# Altium footprint library KlokWave.PcbLib: 24 footprints (part 1 of 2)
Each footprint in its own frame and in the unit in brackets; x right, y up, seen from the top. Pads: shape width x height; smd on the part's side, far side on the other; paste and mask are expansions set on the pad; w line width, h text height; cw(c..) or ccw(c..) is an arc to the next point about the centre after c.
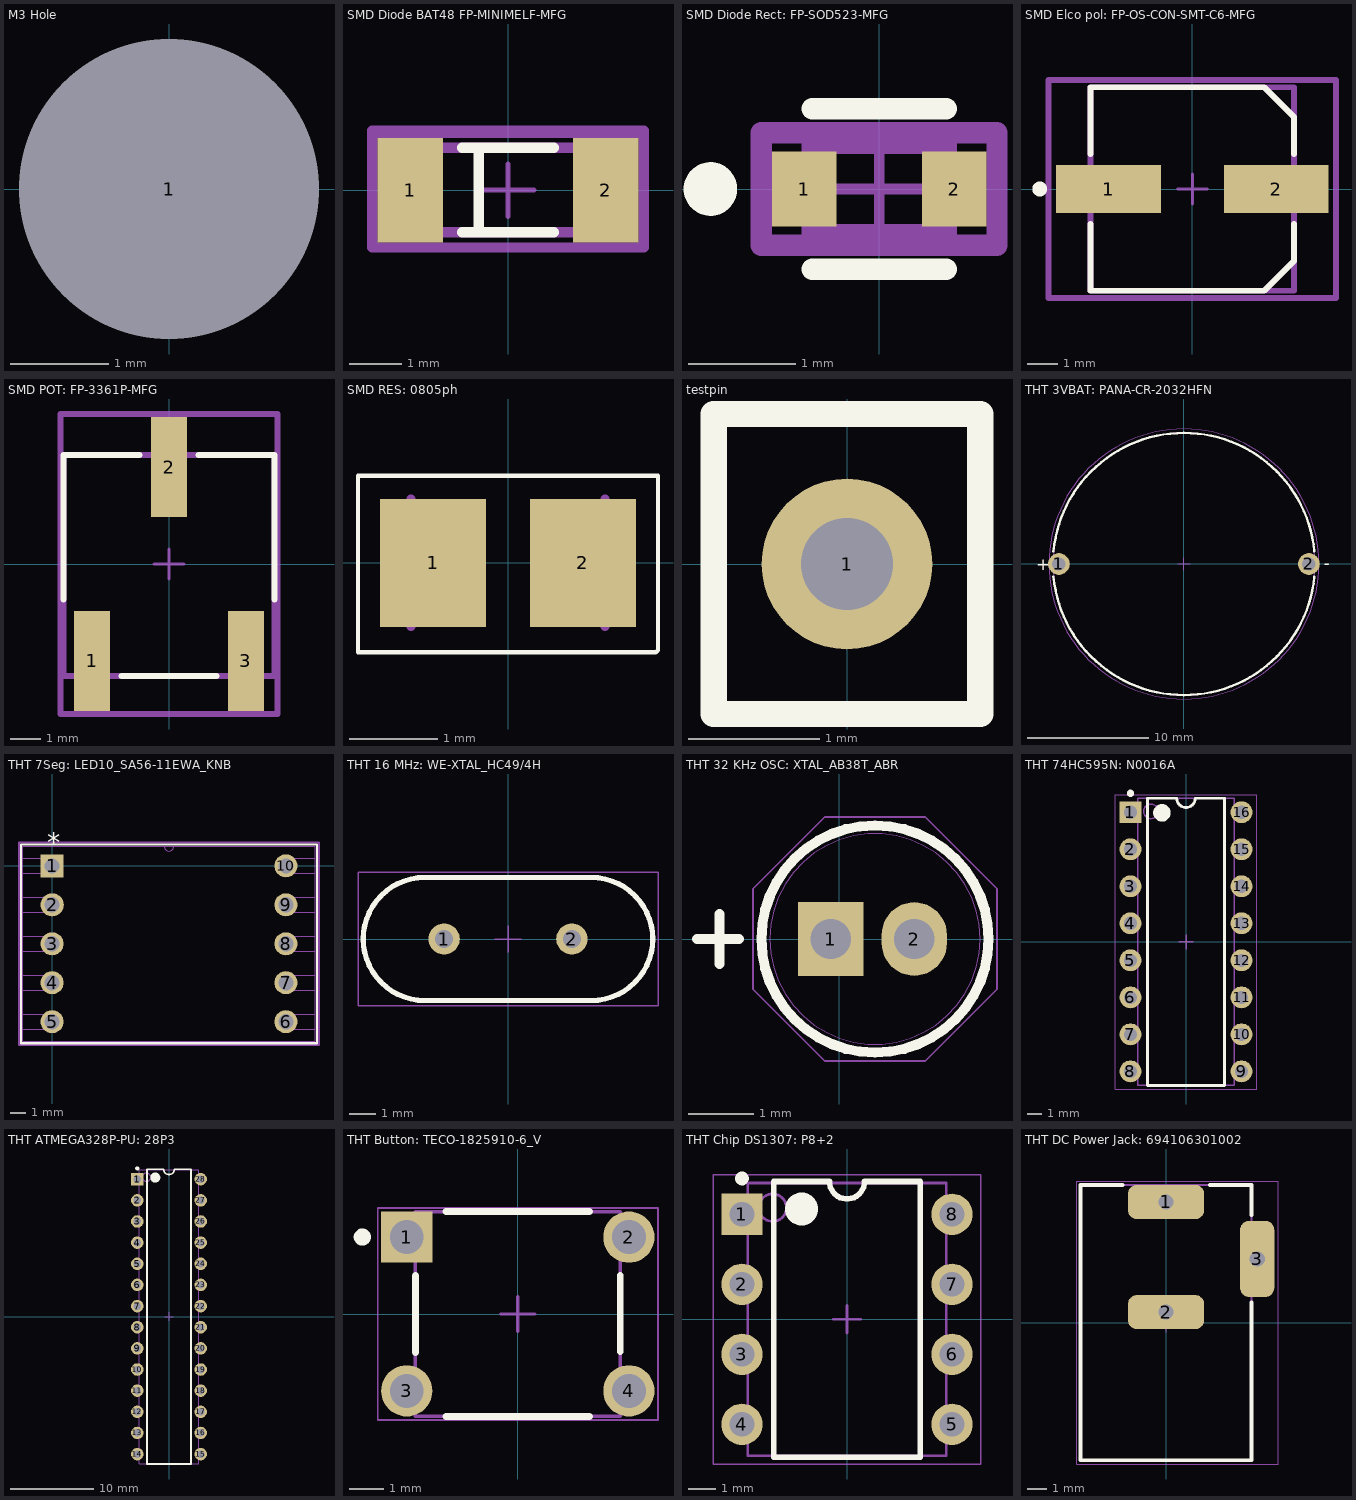
[diagram p0: the footprints below, top view; thin cyan lines are the x and y axes]

## M3 Hole [mm]
pads (1):
  round 1.3 hole 3.048 unplated paste-2539.97 mask+0: 1(0,0)

## SMD Diode BAT48 FP-MINIMELF-MFG [mm]
pads (2):
  rect 1.25x2 smd paste+0 mask+0: 1(-1.875,0) 2(1.875,0)
Top Overlay:
  lines w0.2: -0.875,-0.81 0.875,-0.81 ; -0.875,0.81 0.875,0.81 ; -0.56,-0.75 -0.56,0.75
Top 3D Body:
  lines w0.2: -1.8,-0.81 -1.8,0.81 1.8,0.81 1.8,-0.81 -1.8,-0.81
Top Courtyard:
  lines w0.2: -2.6,-1.1 2.6,-1.1 2.6,1.143 -2.6,1.143 -2.6,-1.1
Top Assembly:
  lines w0.2: -2.6,-1.1 -2.6,1.1 2.6,1.1 2.6,-1.1 -2.6,-1.1
Top Component Center:
  lines w0.1: -0.5,0 0.5,0 ; 0,-0.5 0,0.5
3D body "Diode_STMicroelectronics_TMMBAT48FILM_eec.STEP": height 0.25, standoff 0, extent -2.6,-1.1 2.6,1.1

## SMD Diode Rect: FP-SOD523-MFG [mm] "~ 2mm"
pads (2):
  rect 0.6x0.7 smd paste+0 mask+0: 1(-0.7,0) 2(0.7,0)
Top Overlay:
  circle w0.25: c-1.575,0 r0.125
  lines w0.2: -0.625,-0.75 0.625,-0.75 ; -0.625,0.75 0.625,0.75
Top 3D Body:
  lines w0.2: -0.625,-0.425 0.625,-0.425 0.625,0.425 -0.625,0.425 -0.625,-0.425
Top Courtyard:
  lines w0.2: -1.1,-0.525 1.1,-0.525 1.1,0.525 -1.1,0.525 -1.1,-0.525
Top Assembly:
  lines w0.2: -1.1,-0.525 1.1,-0.525 1.1,0.525 -1.1,0.525 -1.1,-0.525
Top Component Center:
  lines w0.1: -0.5,0 0.5,0 ; 0,-0.5 0,0.5
3D body "Diode_Diodes_Inc_SDM03U40-7_eec.STEP": height 0.25, standoff 0, extent -1.1,-0.525 1.1,0.525

## SMD Elco pol: FP-OS-CON-SMT-C6-MFG [mm]
pads (2):
  rect 3.5x1.6 smd paste+0 mask+0: 1(-2.8,0) 2(2.8,0)
Top Overlay:
  circle w0.25: c-5.1,0 r0.125
  lines w0.2: -3.4,-1.175 -3.4,-3.4 2.4,-3.4 3.4,-2.4 3.4,-1.175 ; -3.4,1.175 -3.4,3.4 2.4,3.4 3.4,2.4 3.4,1.175
Top 3D Body:
  lines w0.2: -3.4,-3.4 -3.4,3.4 3.4,3.4 3.4,-3.4 -3.4,-3.4
Top Courtyard:
  lines w0.2: -4.8,-3.65 -4.8,3.65 4.8,3.65 4.8,-3.65 -4.8,-3.65
Top Assembly:
  lines w0.2: -4.8,-3.65 -4.8,3.65 4.8,3.65 4.8,-3.65 -4.8,-3.65
Top Component Center:
  lines w0.1: -0.5,0 0.5,0 ; 0,-0.5 0,0.5
3D body "Cap_Panasonic_20SVPK150M_eec.STEP": height 0.25, standoff 0, extent -4.8,-3.65 4.8,3.65

## SMD POT: FP-3361P-MFG [mm]
pads (3):
  rect 1.19x3.3 smd paste+0 mask+0: 1(-2.54,-3.2) 2(0,3.2) 3(2.54,-3.2)
Top Overlay:
  lines w0.2: -3.48,-1.175 -3.48,3.6 -0.97,3.6 ; -1.57,-3.69 1.57,-3.69 ; 0.97,3.6 3.48,3.6 3.48,-1.175
Top 3D Body:
  lines w0.2: -3.48,-3.69 3.48,-3.69 3.48,3.6 -3.48,3.6 -3.48,-3.69
Top Courtyard:
  lines w0.2: -3.58,-4.95 3.58,-4.95 3.58,4.95 -3.58,4.95 -3.58,-4.95
Top Assembly:
  lines w0.2: -3.58,-4.95 3.58,-4.95 3.58,4.95 -3.58,4.95 -3.58,-4.95
Top Component Center:
  lines w0.1: -0.5,0 0.5,0 ; 0,-0.5 0,0.5
3D body "Res_Bourns_3361P-1-502GLF_eec.STEP": height 0.25, standoff 0, extent -3.58,-4.95 3.58,4.95

## SMD RES: 0805ph [mm] "Chip Resistor, 2-Leads, Body 2.00x1.25mm, IPC Medium Density"
height 0.6
pads (2):
  rect 1.2x1.45 smd: 1(-0.85,0) 2(0.85,0)
Top Overlay:
  lines w0.05: -1.702,-1.016 1.676,-1.016 1.702,-0.991 1.702,0.991 -1.702,0.991 -1.702,-1.016
Mechanical 13:
  lines w0.1: -1.1,-0.725 -1.1,0.725 ; 1.1,-0.725 1.1,0.725
3D body: height 0.6, standoff 0, extent -1.1,-0.725 -0.7,0.725
3D body: height 0.6, standoff 0, extent 0.7,-0.725 1.1,0.725

## testpin [mm]
pads (1):
  round 1.3 hole 0.7: 1(0,0)
Top Overlay:
  lines w0.2: -1.016,-1.143 1.016,-1.143 1.016,-0.244 1.016,1.143 -1.016,1.143 -1.016,-1.143

## THT 3VBAT: PANA-CR-2032HFN [mm] "TH, 2-Leads, Dia 21.5mm"
height 9.9
pads (2):
  round 1.78 hole 1.1: 1(-10.25,0)
  oval 1.778x1.78 hole 1.1: 2(10.25,0)
Top Overlay:
  lines w0.2: -10.698,-1.06 ccw(c0,0) 10.698,-1.06 ; -10.698,1.06 cw(c0,0) 10.698,1.06
  text "-" at 11.453,-0.45 h1.02
  text "+" at -12.13,-0.5 h1.02
Top Assembly:
  text "-" at 11.453,-0.45 h1.02
  text "+" at -12.13,-0.5 h1.02
Mechanical 13:
  circle w0.1: c0,0 r10.75
Mechanical 15:
  circle w0.05: c0,0 r11.075
  lines w0.1: -0.5,0 0.5,0 ; 0,-0.5 0,0.5
3D body: height 9.9, standoff 4.45, extent -10.749,-10.749 10.749,10.749

## THT 7Seg: LED10_SA56-11EWA_KNB [mil]
pads (10):
  rect 59x59 / inner round 60 / far side rect 59x59 hole 39 paste-99999 mask+0: 1(0,0)
  oval 60x59 hole 39 paste-99999 mask+0: 2(0,-100)
  round 59 / inner round 60 / far side round 59 hole 39 paste-99999 mask+0: 3(0,-200) 4(0,-300) 5(0,-400) 6(600,-400) 7(600,-300) 8(600,-200) 9(600,-100) 10(600,0)
Top Overlay:
  lines w6: -80,-455 680,-455 680,55 -80,55 -80,-455
  text "*" at -12.5,34.5 h50
Mechanical 13:
  lines w0: 288,50 ccw(c300,50) 312,50
  lines w1: -75,-450 675,-450 675,50 -75,50 -75,-450 ; -75,-419.5 -75,-380.5 -19.5,-380.5 -19.5,-419.5 -75,-419.5 ; -75,-319.5 -75,-280.5 -19.5,-280.5 -19.5,-319.5 -75,-319.5 ; -75,-219.5 -75,-180.5 -19.5,-180.5 -19.5,-219.5 -75,-219.5 ; -75,-119.5 -75,-80.5 -19.5,-80.5 -19.5,-119.5 -75,-119.5 ; -75,-19.5 -75,19.5 -19.5,19.5 -19.5,-19.5 -75,-19.5 ; 619.5,-419.5 675,-419.5 675,-380.5 619.5,-380.5 619.5,-419.5 ; 619.5,-319.5 675,-319.5 675,-280.5 619.5,-280.5 619.5,-319.5 ; 619.5,-219.5 675,-219.5 675,-180.5 619.5,-180.5 619.5,-219.5 ; 619.5,-119.5 675,-119.5 675,-80.5 619.5,-80.5 619.5,-119.5 ; 619.5,-19.5 675,-19.5 675,19.5 619.5,19.5 619.5,-19.5
  text "*" at -77.5,-25 h50
Mechanical 15:
  lines w6: -85,-460 -85,-439.5 -85,39.5 -85,60 685,60 685,39.5 685,-439.5 685,-460 -85,-460
3D body "LED10_SA56-11EWA_KNB.step": height 320.12, standoff -100, extent -5,-450 609.61,50

## THT 16 MHz: WE-XTAL_HC49/4H [mm] "Quartz Crystal, size HC49/4H, body 11.05x4.7mm"
height 4.1
pads (2):
  round 1.2 hole 0.7: 1(-2.44,0) 2(2.44,0)
Top Overlay:
  lines w0.2: -3.175,-2.35 cw(c-3.175,0) -3.175,2.35 3.175,2.35 cw(c3.175,0) 3.175,-2.35 -3.175,-2.35
Top 3D Body:
  lines w0.1: -3.175,-2.35 cw(c-3.175,0) -3.175,2.35 3.175,2.35 cw(c3.175,0) 3.175,-2.35 -3.175,-2.35
Top Courtyard:
  lines w0.05: -0.5,0 0.5,0 ; 0,-0.5 0,0.5 ; -5.725,-2.55 -5.725,2.55 5.725,2.55 5.725,-2.55 -5.725,-2.55
Top Component Outline:
  lines w0.1: -3.175,-2.35 cw(c-3.175,0) -3.175,2.35 3.175,2.35 cw(c3.175,0) 3.175,-2.35 -3.175,-2.35
3D body "Frq_XTAL_HC49-4H.stp": height 4.15, standoff -12.65, extent -5.525,-2.35 5.525,2.35

## THT 32 KHz OSC: XTAL_AB38T_ABR [mil]
pads (2):
  rect 39x44 / inner round 60 / far side rect 39x44 hole 24 mask+0: 1(-5,0)
  oval 39x44 / inner round 60 / far side oval 39x44 hole 24 mask+0: 2(45,0)
Top Overlay:
  circle w6: c21.5,0 r68
  lines w6: -85,0 -60,0 ; -71.5,-15 -71.5,15
Mechanical 13:
  circle w0: c21.5,0 r63
  lines w1: -85,0 -60,0 ; -71.5,-15 -71.5,15
Mechanical 15:
  lines w1: -51.5,-30.06 -51.5,30.06 -8.56,73 51.56,73 94.5,30.06 94.5,-30.06 51.56,-73 -8.56,-73 -51.5,-30.06
3D body "XTAL_AB38T_ABR.step": height 330.63, standoff -142.01, extent -41.98,-62.54 84.5,62.54

## THT 74HC595N: N0016A [mm] "DIP, 16-Leads, Body 19.7x6.6mm, Pitch 2.54mm"
height 5.08
pads (16):
  rect 1.5x1.5 hole 0.9: 1(-3.81,8.89)
  round 1.5 hole 0.9: 2(-3.81,6.35) 3(-3.81,3.81) 4(-3.81,1.27) 5(-3.81,-1.27) 6(-3.81,-3.81) 7(-3.81,-6.35) 8(-3.81,-8.89) 9(3.81,-8.89) 10(3.81,-6.35) 11(3.81,-3.81) 12(3.81,-1.27) 13(3.81,1.27) 14(3.81,3.81) 15(3.81,6.35) 16(3.81,8.89)
Top Overlay:
  circle w0.25: c-3.81,10.19 r0.125
  circle w0.6: c-1.65,8.85 r0.3
  lines w0.2: -2.65,-9.85 -2.65,9.85 -0.635,9.85 ccw(c0,9.85) 0.635,9.85 2.65,9.85 2.65,-9.85 -2.65,-9.85
Mechanical 13:
  circle w0.1: c-2.4,8.95 r0.5
  lines w0.1: -3.3,-9.85 -3.3,9.85 3.3,9.85 3.3,-9.85 -3.3,-9.85
Mechanical 15:
  lines w0.05: -4.85,-10.1 -4.85,10.1 4.85,10.1 4.85,-10.1 -4.85,-10.1
  lines w0.1: -0.5,0 0.5,0 ; 0,-0.5 0,0.5
3D body: height 5.08, standoff 0.51, extent -3.3,-9.85 3.3,9.85
3D body: height 2.66, standoff 0, extent -3.945,8.39 -3.675,9.39
3D body: height 2.93, standoff 2.66, extent -3.945,8.39 -3.3,9.39
3D body: height 0, standoff -1.6, extent -3.945,8.53 -3.675,9.25
3D body: height 2.66, standoff 0, extent -3.945,5.85 -3.675,6.85
3D body: height 2.93, standoff 2.66, extent -3.945,5.85 -3.3,6.85
3D body: height 0, standoff -1.6, extent -3.945,5.99 -3.675,6.71
3D body: height 2.66, standoff 0, extent -3.945,3.31 -3.675,4.31
3D body: height 2.93, standoff 2.66, extent -3.945,3.31 -3.3,4.31
3D body: height 0, standoff -1.6, extent -3.945,3.45 -3.675,4.17
3D body: height 2.66, standoff 0, extent -3.945,0.77 -3.675,1.77
3D body: height 2.93, standoff 2.66, extent -3.945,0.77 -3.3,1.77
3D body: height 0, standoff -1.6, extent -3.945,0.91 -3.675,1.63
3D body: height 2.66, standoff 0, extent -3.945,-1.77 -3.675,-0.77
3D body: height 2.93, standoff 2.66, extent -3.945,-1.77 -3.3,-0.77
3D body: height 0, standoff -1.6, extent -3.945,-1.63 -3.675,-0.91
3D body: height 2.66, standoff 0, extent -3.945,-4.31 -3.675,-3.31
3D body: height 2.93, standoff 2.66, extent -3.945,-4.31 -3.3,-3.31
3D body: height 0, standoff -1.6, extent -3.945,-4.17 -3.675,-3.45
3D body: height 2.66, standoff 0, extent -3.945,-6.85 -3.675,-5.85
3D body: height 2.93, standoff 2.66, extent -3.945,-6.85 -3.3,-5.85
3D body: height 0, standoff -1.6, extent -3.945,-6.71 -3.675,-5.99
3D body: height 2.66, standoff 0, extent -3.945,-9.39 -3.675,-8.39
3D body: height 2.93, standoff 2.66, extent -3.945,-9.39 -3.3,-8.39
3D body: height 0, standoff -1.6, extent -3.945,-9.25 -3.675,-8.53
3D body: height 2.66, standoff 0, extent 3.675,-9.39 3.945,-8.39
3D body: height 2.93, standoff 2.66, extent 3.3,-9.39 3.945,-8.39
3D body: height 0, standoff -1.6, extent 3.675,-9.25 3.945,-8.53
3D body: height 2.66, standoff 0, extent 3.675,-6.85 3.945,-5.85
3D body: height 2.93, standoff 2.66, extent 3.3,-6.85 3.945,-5.85
3D body: height 0, standoff -1.6, extent 3.675,-6.71 3.945,-5.99
3D body: height 2.66, standoff 0, extent 3.675,-4.31 3.945,-3.31
3D body: height 2.93, standoff 2.66, extent 3.3,-4.31 3.945,-3.31
3D body: height 0, standoff -1.6, extent 3.675,-4.17 3.945,-3.45
3D body: height 2.66, standoff 0, extent 3.675,-1.77 3.945,-0.77
3D body: height 2.93, standoff 2.66, extent 3.3,-1.77 3.945,-0.77
3D body: height 0, standoff -1.6, extent 3.675,-1.63 3.945,-0.91
3D body: height 2.66, standoff 0, extent 3.675,0.77 3.945,1.77
3D body: height 2.93, standoff 2.66, extent 3.3,0.77 3.945,1.77
3D body: height 0, standoff -1.6, extent 3.675,0.91 3.945,1.63
3D body: height 2.66, standoff 0, extent 3.675,3.31 3.945,4.31
3D body: height 2.93, standoff 2.66, extent 3.3,3.31 3.945,4.31
3D body: height 0, standoff -1.6, extent 3.675,3.45 3.945,4.17
3D body: height 2.66, standoff 0, extent 3.675,5.85 3.945,6.85
3D body: height 2.93, standoff 2.66, extent 3.3,5.85 3.945,6.85
3D body: height 0, standoff -1.6, extent 3.675,5.99 3.945,6.71
3D body: height 2.66, standoff 0, extent 3.675,8.39 3.945,9.39
3D body: height 2.93, standoff 2.66, extent 3.3,8.39 3.945,9.39
3D body: height 0, standoff -1.6, extent 3.675,8.53 3.945,9.25

## THT ATMEGA328P-PU: 28P3 [mm] "28-Pin Plastic Dual In-Line Package (PDIP)"
height 4.58
pads (28):
  rect 1.5x1.5 hole 0.9: 1(-3.81,16.51)
  round 1.5 hole 0.9: 2(-3.81,13.97) 3(-3.81,11.43) 4(-3.81,8.89) 5(-3.81,6.35) 6(-3.81,3.81) 7(-3.81,1.27) 8(-3.81,-1.27) 9(-3.81,-3.81) 10(-3.81,-6.35) 11(-3.81,-8.89) 12(-3.81,-11.43) 13(-3.81,-13.97) 14(-3.81,-16.51) 15(3.81,-16.51) 16(3.81,-13.97) 17(3.81,-11.43) 18(3.81,-8.89) 19(3.81,-6.35) 20(3.81,-3.81) 21(3.81,-1.27) 22(3.81,1.27) 23(3.81,3.81) 24(3.81,6.35) 25(3.81,8.89) 26(3.81,11.43) 27(3.81,13.97) 28(3.81,16.51)
Top Overlay:
  circle w0.25: c-3.81,17.81 r0.125
  circle w0.6: c-1.65,16.7 r0.3
  lines w0.2: -2.65,-17.7 -2.65,17.7 -0.635,17.7 ccw(c0,17.7) 0.635,17.7 2.65,17.7 2.65,-17.7 -2.65,-17.7
Mechanical 13:
  circle w0.1: c-2.7,16.75 r0.5
  lines w0.1: -3.6,-17.65 -3.6,17.65 3.6,17.65 3.6,-17.65 -3.6,-17.65
Mechanical 15:
  lines w0.1: -0.5,0 0.5,0 ; 0,-0.5 0,0.5
3D body: height 4.58, standoff 0, extent -3.6,-17.65 3.6,17.65

## THT Button: TECO-1825910-6_V [mm] "Switch, 4-Leads, Body 5.99x5.99mm"
height 5
pads (4):
  rect 1.5x1.5 hole 0.99: 1(-3.25,2.25)
  round 1.5 hole 0.99: 2(3.25,2.25) 3(-3.25,-2.25) 4(3.25,-2.25)
Top Overlay:
  circle w0.25: c-4.55,2.25 r0.125
  lines w0.2: -2.995,-1.129 -2.995,1.129 ; -2.104,-2.995 2.1,-2.995 ; -2.104,2.995 2.1,2.995 ; 2.995,-1.1 2.995,1.129
Mechanical 13:
  lines w0.1: -2.995,-2.995 -2.995,2.995 2.995,2.995 2.995,-2.995 -2.995,-2.995
Mechanical 15:
  lines w0.05: -4.1,-3.1 -4.1,3.1 4.1,3.1 4.1,-3.1 -4.1,-3.1
  lines w0.1: -0.5,0 0.5,0 ; 0,-0.5 0,0.5
3D body: height 5, standoff 0, extent -2.995,-2.995 2.995,2.995

## THT Chip DS1307: P8+2 [mm] "DIP, 8-Leads, Row Spacing 7.62mm, Pitch 2.54mm, Body 9.4x7mm"
height 4.58
pads (8):
  rect 1.5x1.5 hole 0.9: 1(-3.81,3.81)
  round 1.5 hole 0.9: 2(-3.81,1.27) 3(-3.81,-1.27) 4(-3.81,-3.81) 5(3.81,-3.81) 6(3.81,-1.27) 7(3.81,1.27) 8(3.81,3.81)
Top Overlay:
  circle w0.6: c-1.65,4 r0.3
  circle w0.25: c-3.81,5.11 r0.125
  lines w0.2: -2.65,-5 2.65,-5 2.65,5 0.635,5 cw(c0,5) -0.635,5 -2.65,5 -2.65,-5
Mechanical 13:
  circle w0.1: c-2.7,4.05 r0.5
  lines w0.1: -3.6,-4.95 -3.6,4.95 3.6,4.95 3.6,-4.95 -3.6,-4.95
Mechanical 15:
  lines w0.05: -4.85,-5.25 4.85,-5.25 4.85,5.25 -4.85,5.25 -4.85,-5.25
  lines w0.1: -0.5,0 0.5,0 ; 0,-0.5 0,0.5
3D body: height 4.57, standoff 0.38, extent -3.6,-4.95 3.6,4.95

## THT DC Power Jack: 694106301002 [mm] "DC Power Jack Right Angled(6.4)"
height 10.7
pads (3):
  rrect50% 4x1.8 hole 0.8 square: 1(0,6.35) 2(0,0.55)
  rrect50% 1.8x4 hole 0.8 square: 3(4.8,3.35)
Top Overlay:
  lines w0.2: -2.3,7.25 -4.5,7.25 -4.5,-7.25 4.5,-7.25 4.5,1.05 ; 2.3,7.25 4.5,7.25 4.5,5.65
Top 3D Body:
  lines w0.1: -4.5,-7.25 4.5,-7.25 4.5,7.25 -4.5,7.25 -4.5,-7.25
Top Courtyard:
  lines w0.05: -0.5,0 0.5,0 ; 0,-0.5 0,0.5 ; -4.7,-7.45 -4.7,7.45 5.9,7.45 5.9,-7.45 -4.7,-7.45
Top Component Outline:
  lines w0.1: -4.5,-7.25 -4.5,7.25 4.5,7.25 4.5,-7.25 -4.5,-7.25
3D body "694106301002.stp": height 10.75, standoff -3.75, extent -4.5,-7.25 5,7.25